# EAGLE library part SN74CBT3257C (library Custom_Library)
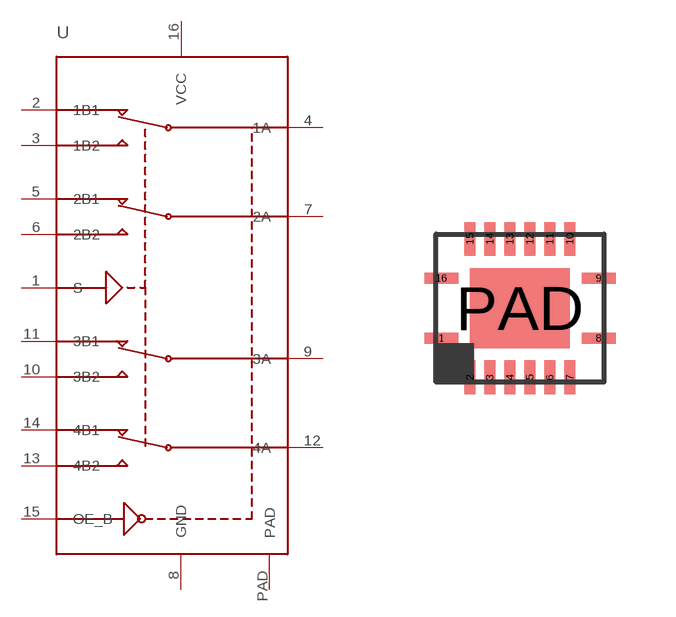
[diagram p30: symbol with the pads of VQFN16; footprint VQFN16]

Designator prefix U

## SN74CBT3257C  [VQFN16]
1  S
2  1B1
3  1B2
4  1A
5  2B1
6  2B2
7  2A
8  GND
9  3A
10  3B2
11  3B1
12  4A
13  4B2
14  4B1
15  OE_B
16  VCC
PAD  PAD

## Footprint VQFN16 (pad centres in mm)
smd 0.85 x 0.28: 1 -1.97,-0.75; 8 1.97,-0.75; 9 1.97,0.75; 16 -1.97,0.75
smd 0.28 x 0.85: 2 -1.25,-1.73; 3 -0.75,-1.73; 4 -0.25,-1.73; 5 0.25,-1.73; 6 0.75,-1.73; 7 1.25,-1.73; 10 1.25,1.73; 11 0.75,1.73; 12 0.25,1.73; 13 -0.25,1.73; 14 -0.75,1.73; 15 -1.25,1.73
smd 2.5 x 2: PAD 0,0